# Altium schematic symbol library Schlib1.SchLib: 76 symbols (part 3 of 3)
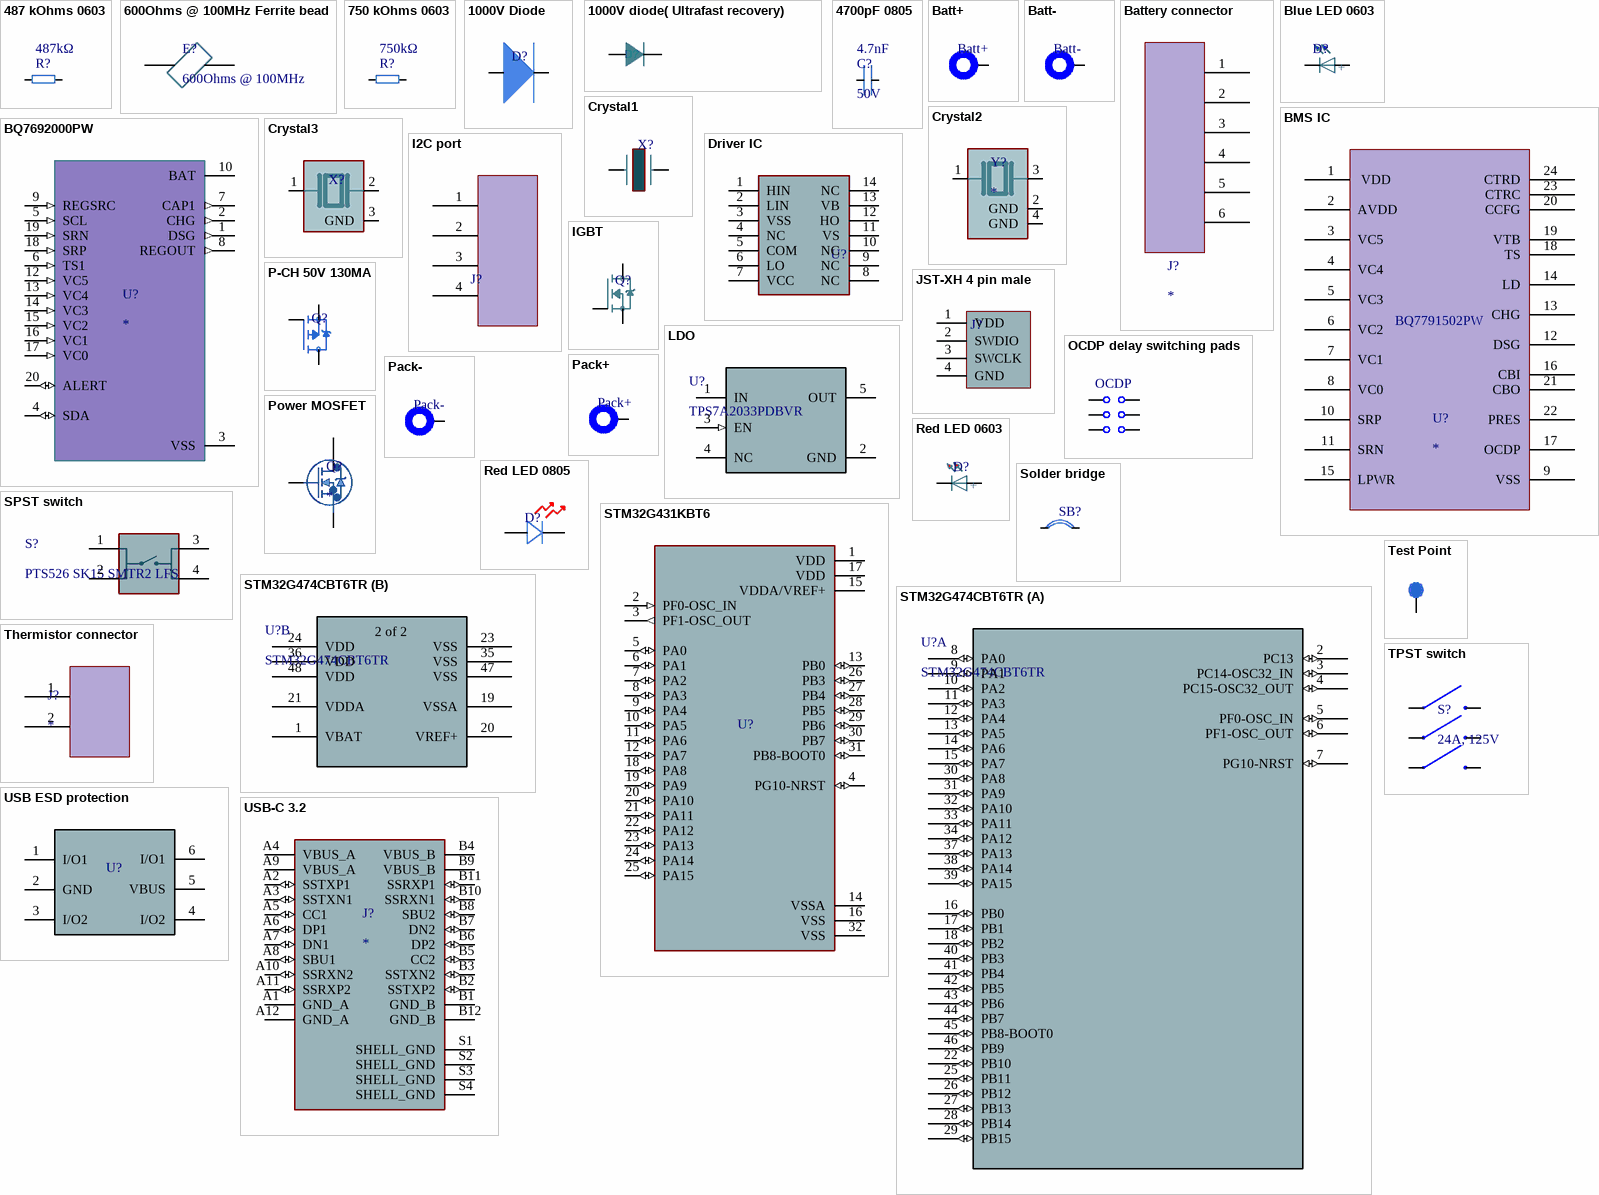
[diagram p3: symbols 487 kOhms 0603 to USB-C 3.2]

## Battery connector
designator J?
WCAP-CSGP 0805 (2012Metric) Ceramic Capacitor 0.079Lx0.049W 2.00mmx1.25mm X7R ±10% 4700pF; Manufacturer: Wurth Elektronik; Manufacturer Part Number: 885012207090; Value: 4.7nF; Insulation Resistance: 10GΩ; Voltage Rating: 50V; Supplier: DigiKey; Supplier Part Number: 732-8072-1-ND; RoHS: Compliant; Category: Ceramic Capacitors; Stock: 13537; Pricing: 1=0.1, 10=0.055, 50=0.0378, 100=0.0327, 500=0.02396, 1000=0.0213 (USD); Case/Package: 0805; Case Code (Imperial): 0805; Case Code (Metric): 2012; Height: 800µm; Length: 2mm; Material: Ceramic; Max Operating Temperature: 125°C; Min Operating Temperature: -55°C; Mounting Technology: Surface Mount; Thickness: 889µm; Tolerance: 10%; Width: 1.25mm; ComponentLink1URL: https://datasheet.octopart.com:443/885012207090-W%C3%BCrth-Elektronik-datasheet-137006526.pdf?src-supplier=Upverter; ComponentLink1Description: https://datasheet.octopart.com:443/885012207090-W%C3%BCrth-Elektronik-datasheet-137006526.pdf?src-supplier=Upverter; ComponentLink2URL: https://datasheet.octopart.com:443/885012207090-Wurth-Elektronik-datasheet-159617621.pdf?src-supplier=Newark; ComponentLink2Description: https://datasheet.octopart.com:443/885012207090-Wurth-Elektronik-datasheet-159617621.pdf?src-supplier=Newark
footprint Battery connector
footprint JST-XH 5 Pin THD
footprint 6 pin 2.54mm male header
pins: 1, 2, 3, 4, 5, 6

## Blue LED 0603
designator D?  (value not drawn)
0603, Blue Typ.(@20mA): 470nm, 145mcd, 3.2V, 140Â° InGaN; MF: Wurth Electronics; MP: 150060BS75000; SnapEDA_Link: https://www.snapeda.com/parts/150060BS75000/Wurth+Electronics/view-part/?ref=snap; Package: 0603 Wurth Electronics; Value: *; Check_prices: https://www.snapeda.com/parts/150060BS75000/Wurth+Electronics/view-part/?ref=eda
footprint WL-SMCW_0603
pins: 1 NEG, 2 POS
text: +

## BMS IC
designator U?
Power Supply Support Circuit, Adjustable, 2 Channel, PDSO24; Manufacturer: Texas Instruments; Manufacturer Part Number: BQ7791502PW; Supplier: Mouser; Supplier Part Number: 595-BQ7791502PW; RoHS: Yes; Category: Battery Management; Stock: 1199; Pricing: 1=1.9, 10=1.4, 50=1.19, 100=1.19, 1000=1.02, 10000=0.903 (USD); ComponentLink1URL: https://www.ti.com:443/lit/ds/symlink/bq77915.pdf?src-supplier=IHS+Markit; ComponentLink1Description: https://www.ti.com:443/lit/ds/symlink/bq77915.pdf?src-supplier=IHS+Markit; ComponentLink2URL: http://www.ti.com/general/docs/suppproductinfo.tsp?distId=10&amp;gotoUrl=http%3A%2F%2Fwww.ti.com%2Flit%2Fgpn%2Fbq77915&src-supplier=Digikey; ComponentLink2Description: http://www.ti.com/general/docs/suppproductinfo.tsp?distId=10&amp;gotoUrl=http%3A%2F%2Fwww.ti.com%2Flit%2Fgpn%2Fbq77915&src-supplier=Digikey
footprint BMS IC
pins: 1  VDD, 2 AVDD, 3 VC5, 4 VC4, 5 VC3, 6 VC2, 7 VC1, 8 VC0, 9 VSS, 10 SRP, 11 SRN, 12 DSG, 13 CHG, 14 LD, 15 LPWR, 16 CBI, 17 OCDP, 18 TS, 19 VTB, 20 CCFG, 21 CBO, 22 PRES, 23 CTRC, 24 CTRD

## BQ7692000PW
designator U?
3 to 5-Series Cell Li-Ion and Li-Phosphate Battery Monitor (bq76940 Family) 20-TSSOP -40 to 85; MP: BQ7692000PW; MF: Texas Instruments; Availability: Warning; SnapEDA_Link: https://www.snapeda.com/parts/BQ7692000PW/Texas%20Instruments/view-part/533751/?ref=snap; Check_prices: https://www.snapeda.com/parts/BQ7692000PW/Texas%20Instruments/view-part/533751/?ref=eda; Value: *; Purchase-URL: https://pricing.snapeda.com/search/part/BQ7692000PW/?ref=eda; Package: TSSOP-20 Texas Instruments; Price: None
footprint SOP65P640X120-20N
footprint BQ7692
pins: 1 DSG (out), 2 CHG (out), 3 VSS (power), 4 SDA (io), 5 SCL (in), 6 TS1 (in), 7 CAP1 (out), 8 REGOUT (out), 9 REGSRC (in), 10 BAT (power), 12 VC5 (in), 13 VC4 (in), 14 VC3 (in), 15 VC2 (in), 16 VC1 (in), 17 VC0 (in), 18 SRP (in), 19 SRN (in), 20 ALERT (io)

## Crystal1
designator X?, comment NX3215SA-32.768K-EXS00A-MU0000  (value not drawn)
Crystals CRYSTAL 32.768KHZ 12.5PF SMD; Manufacturer_Name: NDK; Manufacturer_Part_Number: NX3215SA-32.768K-EXS00A-MU00003; Geometry.Height: 0.9mm; Mouser Part Number: 344-NX3215SA32.768K3; Mouser Price/Stock: https://www.mouser.co.uk/ProductDetail/NDK/NX3215SA-32.768K-EXS00A-MU00003?qs=w%2Fv1CP2dgqrE9YNksyAN9A%3D%3D; Datasheet Link: https://media.digikey.com/pdf/Data%20Sheets/NDK%20PDFs/NX3215SA-32.768kHz-EXS00A-MU00003.pdf
footprint NX3215SA32768KEXS00AMU00003
pins: 1, 2

## Crystal2
designator Y?
8 MHz Â±20ppm Crystal 18pF 72 Ohms 4-SMD, No Lead; MP: ABMM2-8.000MHZ-E2-T; MF: Abracon; Package: SMD-4 Abracon; Purchase-URL: https://pricing.snapeda.com/search/part/ABMM2-8.000MHZ-E2-T/?ref=eda; Price: None; Availability: In Stock; SnapEDA_Link: https://www.snapeda.com/parts/ABMM2-8.000MHZ-E2-T/Abracon+LLC/view-part/?ref=snap; Check_prices: https://www.snapeda.com/parts/ABMM2-8.000MHZ-E2-T/Abracon+LLC/view-part/?ref=eda; Value: *
footprint XTAL_ABMM2-8.000MHZ-E2-T
pins: 1, 2 GND (power), 3 2, 4 GND (power)

## Crystal3
designator X?, comment 24MHz  (value not drawn)
Crystal, Standard, 24 MHz, SMD, 1.6mm x 1.2mm x 0.3mm, 10 ppm, 6 pF, 10 ppm, ECX-1247B; Manufacturer: ECS International; Manufacturer Part Number: ECS-240-6-47B-CKM-TR; Frequency Stability: 10ppm; Frequency Tolerance: 0.001%; Load Capacitance: 6pF; ESR: 100Ω; Supplier: DigiKey; Supplier Part Number: 50-ECS-240-6-47B-CKM-CT-ND; RoHS: Compliant; Category: Crystals; Stock: 3228; Pricing: 1=0.55, 10=0.475, 25=0.4496, 50=0.4308, 100=0.413, 250=0.3906, 500=0.37444 (USD); Frequency: 24MHz; Lifecycle Status: Production; Max Operating Temperature: 70°C; Min Operating Temperature: -20°C; Mounting Technology: Surface Mount; REACH SVHC: Yes; ComponentLink1URL: https://datasheet.octopart.com:443/ECS-240-6-47B-CKM-TR-ECS-International-datasheet-163805538.pdf?src-supplier=IHS; ComponentLink1Description: https://datasheet.octopart.com:443/ECS-240-6-47B-CKM-TR-ECS-International-datasheet-163805538.pdf?src-supplier=IHS
pins: 1, 2, 3 GND (power)

## Driver IC
designator U?, comment UCC27714DR  (value not drawn)
Half Bridge Based MOSFET Driver, 4A, PDSO14; Manufacturer: Texas Instruments; Supplier: Digikey; Supplier Part Number: 296-42701-1-ND; Manufacturer Part Number: UCC27714DR; RoHS: Yes; Category: Integrated Circuits (ICs); Stock: 668; Pricing: 1=3.15, 10=2.36, 25=2.1628, 100=1.9459, 250=1.8426, 500=1.78034, 1000=1.72907 (USD); Terminal Finish: Nickel; JESD-609 Code: e4; Interface IC Type: HALF BRIDGE BASED MOSFET DRIVER; Moisture Sensitivity Level: 2; Reach SVHC Compliant: Yes; RoHS Compliant: Yes; ComponentLink1URL: https://datasheet.ciiva.com:443/pdfs/VipMasterIC/IC/TXII/TXII-S-A0003922155/TXII-S-A0003922155-1.pdf?src-supplier=IHS+Markit; ComponentLink1Description: https://datasheet.ciiva.com:443/pdfs/VipMasterIC/IC/TXII/TXII-S-A0003922155/TXII-S-A0003922155-1.pdf?src-supplier=IHS+Markit; ComponentLink2URL: http://www.ti.com/lit/ds/symlink/ucc27714.pdf?src-supplier=Digikey; ComponentLink2Description: http://www.ti.com/lit/ds/symlink/ucc27714.pdf?src-supplier=Digikey
pins: 1 HIN (power), 2 LIN (power), 3 VSS, 4 NC, 5 COM, 6 LO, 7 VCC, 8 NC, 9 NC, 10 NC, 11 VS, 12 HO, 13 VB (power), 14 NC (power)

## I2C port
designator J?, comment Headers  (value not drawn)
footprint 4 pin 2.54mm male header
pins: 1, 2, 3, 4

## IGBT
designator Q?  (value not drawn)
Insulated Gate Bipolar Transistor, 80A I(C), 650V V(BR)CES, N-Channel, TO-247; Manufacturer: Infineon; Manufacturer Part Number: IGW50N65H5FKSA1; Collector Emitter Saturation Voltage: 2.1V; Element Configuration: Single; Max Power Dissipation: 305W; Number of Elements: 1; Supplier: Arrow Electronics; Supplier Part Number: IGW50N65H5FKSA1; RoHS: Compliant; Category: Power Management ICs; Stock: 58; Pricing: 1=2.6571, 10=2.63, 25=1.931 (USD); Case/Package: TO-247; China RoHS: Compliant; Collector Emitter Breakdown Voltage: 650V; Collector Emitter Voltage (VCEO): 650V; Lead Free: Lead Free; Lifecycle Status: Production; Max Collector Current: 80A; Max Operating Temperature: 175°C; Min Operating Temperature: -40°C; Mounting Technology: Through Hole; Pins: 3; Number of Terminals: 3; Package Quantity: 240; Power Dissipation: 305W; REACH SVHC: Yes; ComponentLink1URL: https://datasheet.octopart.com:443/IGW50N65H5FKSA1-Infineon-datasheet-62294547.pdf?src-supplier=IHS; ComponentLink1Description: https://datasheet.octopart.com:443/IGW50N65H5FKSA1-Infineon-datasheet-62294547.pdf?src-supplier=IHS; ComponentLink2URL: https://datasheet.octopart.com:443/IGW50N65H5FKSA1-Infineon-datasheet-21803310.pdf?src-supplier=Newark; ComponentLink2Description: https://datasheet.octopart.com:443/IGW50N65H5FKSA1-Infineon-datasheet-21803310.pdf?src-supplier=Newark; ComponentLink3URL: http://sigma.octopart.com:80/conflict_mineral_statement/Infineon-company-51.pdf?src-supplier=Compliance+Statements; ComponentLink3Description: http://sigma.octopart.com:80/conflict_mineral_statement/Infineon-company-51.pdf?src-supplier=Compliance+Statements
pins: 1 G, 2 D, 3 S

## JST-XH 4 pin male
designator J?, comment JST-XH  (value not drawn)
Connector Header Through Hole 4 position 0.098 (2.50mm); MF: JST Sales; MP: B4B-XH-A; SnapEDA_Link: https://www.snapeda.com/parts/B4B-XH-A/JST/view-part/?ref=snap; Package: None; Value: *; Check_prices: https://www.snapeda.com/parts/B4B-XH-A/JST/view-part/?ref=eda
footprint JST_B4B-XH-A
pins: 1 VDD, 2 SWDIO, 3 SWCLK, 4 GND

## LDO
designator U?, comment TPS7A2033PDBVR
300mA ultra-low-noise low-IQ low-dropout (LDO) linear regulator with high PSRR 5-SOT-23 -40 to 125; Manufacturer_Name: Texas Instruments; TYPE: TYPE; RefDes: RefDes; Copyright: Copyright (C) 2025 Ultra Librarian. All rights reserved.; Manufacturer_Part_Number: TPS7A2033PDBVR; Datasheet: https://www.ti.com/lit/gpn/tps7a20
footprint DBV0005A-IPC_A
pins: 1 IN (power), 2 GND (power), 3 EN (in), 4 NC, 5 OUT

## OCDP delay switching pads
designator OCDP  (value not drawn)
footprint 4S Switching pads
pins: 1 "Power pad", 2 "Power pad", 3 "Power pad", 4 "Power pad", 5 "Power pad", 6 "Power pad"

## P-CH 50V 130MA
designator Q?, comment 200mW  (value not drawn)
P-Channel 50 V 10 Ohm Enhancement Mode Transistor SOT-323; Manufacturer: Diodes Inc.; Manufacturer Part Number: BSS84W-7-F; Continuous Drain Current (ID): 130mA; Current Rating: -130mA; Drain to Source Resistance: 10Ω; Drain to Source Voltage (Vdss): -50V; Element Configuration: Single; Gate to Source Voltage (Vgs): 20V; Input Capacitance: 45pF; Min Breakdown Voltage: 50V; Nominal Vgs: -1.6V; Number of Channels: 1; Value: 10Ω; Turn-Off Delay Time: 18ns; Turn-On Delay Time: 10ns; Supplier: Future Electronics; Supplier Part Number: 2191460; RoHS: Compliant; Category: MOSFETs; Stock: 1830000; Pricing: 3000=0.0295, 9000=0.0288, 15000=0.0285, 60000=0.0276, 90000=0.027 (USD); Case/Package: SOT-323; China RoHS: Compliant; Contact Plating: Tin; Height: 1mm; Lead Free: Lead Free; Length: 2.2mm; Lifecycle Status: Production; Max Operating Temperature: 150°C; Max Power Dissipation: 200mW; Min Operating Temperature: -55°C; Mounting Technology: Surface Mount; Number of Elements: 1; Pins: 3; Number of Terminals: 3; Power Dissipation: 200mW; Radiation Hardening: No; Rds On Max: 10Ω; REACH SVHC: Yes; Schedule B: 8541210080, 8541210080|8541210080, 8541210080|8541210080|8541210080, 8541210080|8541210080|8541210080|8541210080; Threshold Voltage: -1.6V; Voltage Rating (DC): -50V; Weight: 6.010099mg; Width: 1.35mm; ComponentLink1URL: https://datasheet.octopart.com:443/BSS84W-7-F-Diodes-Inc.-datasheet-180551845.pdf?src-supplier=Newark; ComponentLink1Description: https://datasheet.octopart.com:443/BSS84W-7-F-Diodes-Inc.-datasheet-180551845.pdf?src-supplier=Newark; ComponentLink2URL: https://datasheet.octopart.com:443/BSS84W-7-F-Diodes-Inc.-datasheet-12525918.pdf?src-supplier=Newark; ComponentLink2Description: https://datasheet.octopart.com:443/BSS84W-7-F-Diodes-Inc.-datasheet-12525918.pdf?src-supplier=Newark; ComponentLink3URL: https://datasheet.octopart.com:443/BSS84W-7-F-Diodes-Inc.-datasheet-8398566.pdf?src-supplier=Newark; ComponentLink3Description: https://datasheet.octopart.com:443/BSS84W-7-F-Diodes-Inc.-datasheet-8398566.pdf?src-supplier=Newark; ComponentLink4URL: https://datasheet.octopart.com:443/BSS84W-7-F-Diodes-Inc.-datasheet-41567332.pdf?src-supplier=Newark; ComponentLink4Description: https://datasheet.octopart.com:443/BSS84W-7-F-Diodes-Inc.-datasheet-41567332.pdf?src-supplier=Newark; ComponentLink5URL: https://datasheet.octopart.com:443/BSS84W-7-F-Diodes-Inc.-datasheet-116035940.pdf?src-supplier=Diodes+Inc+SCT; ComponentLink5Description: https://datasheet.octopart.com:443/BSS84W-7-F-Diodes-Inc.-datasheet-116035940.pdf?src-supplier=Diodes+Inc+SCT; ComponentLink6URL: https://sigma.octopart.com:443/138896157/technical_drawing/Diodes-Inc.-BSS84W-7-F.pdf?src-supplier=Diodes+Inc+SCT; ComponentLink6Description: https://sigma.octopart.com:443/138896157/technical_drawing/Diodes-Inc.-BSS84W-7-F.pdf?src-supplier=Diodes+Inc+SCT; ComponentLink7URL: https://datasheet.octopart.com:443/BSS84W-7-F-Diodes-Inc.-datasheet-128476779.pdf?src-supplier=TME; ComponentLink7Description: https://datasheet.octopart.com:443/BSS84W-7-F-Diodes-Inc.-datasheet-128476779.pdf?src-supplier=TME; ComponentLink8URL: https://datasheet.octopart.com:443/BSS84W-7-F-Diodes-Inc.-datasheet-14061317.pdf?src-supplier=iiiC; ComponentLink8Description: https://datasheet.octopart.com:443/BSS84W-7-F-Diodes-Inc.-datasheet-14061317.pdf?src-supplier=iiiC; ComponentLink9URL: https://datasheet.octopart.com:443/BSS84W-7-F-Diodes-Inc.-datasheet-41929731.pdf?src-supplier=RS+(Formerly+Allied+Electronics); ComponentLink9Description: https://datasheet.octopart.com:443/BSS84W-7-F-Diodes-Inc.-datasheet-41929731.pdf?src-supplier=RS+(Formerly+Allied+Electronics); ComponentLink10URL: https://datasheet.octopart.com:443/BSS84W-7-F-Diodes-Inc.-datasheet-8318221.pdf?src-supplier=Jameco; ComponentLink10Description: https://datasheet.octopart.com:443/BSS84W-7-F-Diodes-Inc.-datasheet-8318221.pdf?src-supplier=Jameco; ComponentLink11URL: https://datasheet.octopart.com:443/BSS84W-7-F-Diodes-Inc.-datasheet-71356.pdf?src-supplier=Mouser; ComponentLink11Description: https://datasheet.octopart.com:443/BSS84W-7-F-Diodes-Inc.-datasheet-71356.pdf?src-supplier=Mouser; ComponentLink12URL: http://sigma.octopart.com:80/15540767/rohs_statement/Diodes-Inc.-BSS84W-7-F.pdf?src-supplier=Compliance+Statements; ComponentLink12Description: http://sigma.octopart.com:80/15540767/rohs_statement/Diodes-Inc.-BSS84W-7-F.pdf?src-supplier=Compliance+Statements
footprint P-CH 50V 130MA
pins: 1 G, 2 S, 3 D

## Pack+
designator Pack+, comment Power pad  (value not drawn)
Powerplus High Current Terminal; Manufacturer: Wurth Electronics; Manufacturer Part Number: S93515; Supplier: Digikey; Supplier Part Number: 2101-S93515-ND; RoHS: No; Category: Terminals; Stock: 33869; Pricing: 1=1.59, 10=1.352, 25=1.2668, 99=1.14929, 198=1.09439, 297=1.0635, 594=1.01273, 1089=0.97034, 2574=0.9375 (USD)
footprint Screw connector
footprint Power through hole pads
pins: 1 "Power pad"

## Pack-
designator Pack-, comment Power pad  (value not drawn)
Powerplus High Current Terminal; Manufacturer: Wurth Electronics; Manufacturer Part Number: S93515; Supplier: Digikey; Supplier Part Number: 2101-S93515-ND; RoHS: No; Category: Terminals; Stock: 33869; Pricing: 1=1.59, 10=1.352, 25=1.2668, 99=1.14929, 198=1.09439, 297=1.0635, 594=1.01273, 1089=0.97034, 2574=0.9375 (USD)
footprint Screw connector
footprint Power through hole pads
pins: 1 "Power pad"

## Power MOSFET
designator Q?
Mosfet, N-ch, Single, 120A, 65V,; Manufacturer: Good-Ark; Manufacturer Part Number: GSFP06120; Supplier: DigiKey; Supplier Part Number: 4786-GSFP06120CT-ND; Category: MOSFETs; Stock: 2771; Pricing: 1=0.93, 10=0.669, 25=0.6028, 100=0.5305, 250=0.49588, 500=0.47506, 1000=0.45792 (USD)
footprint GSFP06120
pins: 1, 2, 3

## Red LED 0603
designator D?  (value not drawn)
Single Color LED, Super Red, Colorless Diffused, 1mm; Manufacturer: Osram Opto; Manufacturer Part Number: LSQ976-NR-1; Shape: Rectangular; Lens Style: Diffused,Colorless; Forward Current: 25mA; Luminous Intensity-Nom: 104mcd; Channels: 1; Viewing Angle: 160°; Overall Height: 0.8mm; Supplier: Avnet; Supplier Part Number: Q62702P5187; RoHS: Yes; Category: LEDs; Stock: 48000; Pricing: 16000=0.02047, 32000=0.0203, 64000=0.02013, 96000=0.01996, 128000=0.01979 (USD); Mounting Technology: Surface Mount; Pins: 2; Color: Red; Terminal Finish: Copper; Min Operating Temperature: -30°C; Max Operating Temperature: 85°C; JESD-609 Code: e4; Optoelectronic Device Type: SINGLE COLOR LED; Packaging: Tape and Reel; Size: 1mm; Terminal Pitch: 1.5mm; Reach SVHC Compliant: Yes; RoHS Compliant: Yes; ComponentLink1URL: https://datasheet.ciiva.com:443/pdfs/VipMasterIC/IC/OSOS/OSOS-S-A0009829090/OSOS-S-A0009829161-1.pdf?src-supplier=IHS+Markit; ComponentLink1Description: https://datasheet.ciiva.com:443/pdfs/VipMasterIC/IC/OSOS/OSOS-S-A0009829090/OSOS-S-A0009829161-1.pdf?src-supplier=IHS+Markit; ComponentLink2URL: http://www.mouser.com/ds/2/311/LS%20Q976%20-%20CHIPLED%200603-741036.pdf?src-supplier=Mouser; ComponentLink2Description: http://www.mouser.com/ds/2/311/LS%20Q976%20-%20CHIPLED%200603-741036.pdf?src-supplier=Mouser; ComponentLink3URL: https://datasheet.octopart.com/Q62702P5187-Osram-datasheet-166898701.pdf?src-supplier=Future+Electronics; ComponentLink3Description: https://datasheet.octopart.com/Q62702P5187-Osram-datasheet-166898701.pdf?src-supplier=Future+Electronics; ComponentLink4URL: https://dammedia.osram.info/media/resource/hires/osram-dam-2493499/LS%20Q976.pdf?src-supplier=Digikey; ComponentLink4Description: https://dammedia.osram.info/media/resource/hires/osram-dam-2493499/LS%20Q976.pdf?src-supplier=Digikey; ComponentLink5URL: http://datasheet.octopart.com/LS-Q976-NR-1-Osram-Opto-datasheet-138897506.pdf?src-supplier=Distrelec; ComponentLink5Description: http://datasheet.octopart.com/LS-Q976-NR-1-Osram-Opto-datasheet-138897506.pdf?src-supplier=Distrelec; ComponentLink6URL: http://catalog.osram-os.com/catalogue/catalogue.do;jsessionid=DB5BAFF3681E40FDF2182FC557DD8F39?act=downloadFile&favOid=020000010003fd4e000100b6&src-supplier=Avnet; ComponentLink6Description: http://catalog.osram-os.com/catalogue/catalogue.do;jsessionid=DB5BAFF3681E40FDF2182FC557DD8F39?act=downloadFile&favOid=020000010003fd4e000100b6&src-supplier=Avnet; ComponentLink7URL: http://datasheet.octopart.com/LS-Q976-NR-1-Osram-Opto-datasheet-138897506.pdf?src-supplier=Verical; ComponentLink7Description: http://datasheet.octopart.com/LS-Q976-NR-1-Osram-Opto-datasheet-138897506.pdf?src-supplier=Verical; ComponentLink8URL: http://datasheet.octopart.com/LS-Q976-NR-1-Osram-Opto-datasheet-138897506.pdf?src-supplier=TME; ComponentLink8Description: http://datasheet.octopart.com/LS-Q976-NR-1-Osram-Opto-datasheet-138897506.pdf?src-supplier=TME
pins: 1 NEG, 2 POS
text: +

## Red LED 0805
designator D?, comment Red  (value not drawn)
Single-color LEDs; LITEON; LTST-C171KRKT; Red; 130 °; 2 V; 0805; Manufacturer: Lite-On; Dominant Wavelength: 631nm; Forward Current: 30mA; Forward Voltage: 2V; Lens Color: Clear, Colorless; Lens Style: Clear; Luminous Intensity: 54mcd; Number of Circuits: 1; Peak Wavelength: 639nm; Power Dissipation: 75mW; Reverse Voltage: 5V; Shape: Rectangular; Test Current: 20mA; Viewing Angle: 130°; Supplier: Avnet; Supplier Part Number: LTST-C171KRKT; Manufacturer Part Number: LTST-C171KRKT; RoHS: Compliant; Category: LEDs; Stock: 36000; Pricing: 6000=0.0286, 12000=0.02795, 24000=0.02731, 48000=0.02666, 96000=0.02602 (USD); Case/Package: 0805; Case Code (Imperial): 0805; Case Code (Metric): 2012; China RoHS: Compliant; Color: Red; Depth: 1.25mm; Height: 800µm; Illumination Color: Red; Lead Free: Lead Free; Length: 2mm; Lens Transparency: Clear; Lifecycle Status: Production; Max Operating Temperature: 85°C; Min Operating Temperature: -55°C; Mounting Technology: Surface Mount; Number of Elements: 1; Number of LEDs: 1; Pins: 2; Number of Terminals: 2; Power Rating: 75mW; Radiation Hardening: No; REACH SVHC: Yes; Schedule B: 8541402000, 8541402000|8541402000|8541402000|8541402000|8541402000; Terminal Pitch: 2.5mm; Wavelength: 631nm; Width: 1.25mm; ComponentLink1URL: https://datasheet.octopart.com:443/LTST-C171KRKT-Lite-On-datasheet-32046998.pdf?src-supplier=ODG+(Origin+Data+Global); ComponentLink1Description: https://datasheet.octopart.com:443/LTST-C171KRKT-Lite-On-datasheet-32046998.pdf?src-supplier=ODG+(Origin+Data+Global); ComponentLink2URL: https://datasheet.octopart.com:443/LTST-C171KRKT-Lite-On-datasheet-180605162.pdf?src-supplier=IHS; ComponentLink2Description: https://datasheet.octopart.com:443/LTST-C171KRKT-Lite-On-datasheet-180605162.pdf?src-supplier=IHS; ComponentLink3URL: https://datasheet.octopart.com:443/LTST-C171KRKT-Lite-On-datasheet-166436.pdf?src-supplier=_legacy+Avnet; ComponentLink3Description: https://datasheet.octopart.com:443/LTST-C171KRKT-Lite-On-datasheet-166436.pdf?src-supplier=_legacy+Avnet; ComponentLink4URL: https://datasheet.octopart.com:443/LTST-C171KRKT-Lite-On-datasheet-166322636.pdf?src-supplier=TME; ComponentLink4Description: https://datasheet.octopart.com:443/LTST-C171KRKT-Lite-On-datasheet-166322636.pdf?src-supplier=TME; ComponentLink5URL: https://datasheet.octopart.com:443/LTST-C171KRKT-Lite-On-datasheet-165573808.pdf?src-supplier=TME; ComponentLink5Description: https://datasheet.octopart.com:443/LTST-C171KRKT-Lite-On-datasheet-165573808.pdf?src-supplier=TME; ComponentLink6URL: https://datasheet.octopart.com:443/LTST-C171KRKT-Lite-On-datasheet-8330373.pdf?src-supplier=Future+Electronics; ComponentLink6Description: https://datasheet.octopart.com:443/LTST-C171KRKT-Lite-On-datasheet-8330373.pdf?src-supplier=Future+Electronics; ComponentLink7URL: https://datasheet.octopart.com:443/LTST-C171KRKT-Lite-On-datasheet-62737.pdf?src-supplier=DigiKey; ComponentLink7Description: https://datasheet.octopart.com:443/LTST-C171KRKT-Lite-On-datasheet-62737.pdf?src-supplier=DigiKey
footprint LED 0805
pins: 1 CATHODE, 2 ANODE

## Solder bridge
designator SB?  (value not drawn)
footprint Solder Bridge
pins: 1, 2

## SPST switch
designator S?, comment PTS526 SK15 SMTR2 LFS
No Description Available; Manufacturer_Name: C&K Components; Copyright: Copyright (C) 2025 Ultra Librarian. All rights reserved.; Manufacturer_Part_Number: PTS526 SK15 SMTR2 LFS; RefDes: RefDes; Type: Type
footprint SMT_FS
pins: 1, 2, 3, 4

## STM32G431KBT6
designator U?  (value not drawn)
ARMÂ® CortexÂ®-M4F STM32G4 Microcontroller IC 32-Bit Single-Core 170MHz 128KB (128K x 8) FLASH 32-LQFP (7x7); MF: STMicroelectronics; SnapEDA_Link: https://www.snapeda.com/parts/STM32G431KBT6/STMicroelectronics/view-part/?ref=snap; Package: LQFP-32 STMicroelectronics; Value: *; MP: STM32G431KBT6; Check_prices: https://www.snapeda.com/parts/STM32G431KBT6/STMicroelectronics/view-part/?ref=eda
footprint QFP80P900X900X160-32N
pins: 1 VDD (power), 2 PF0-OSC_IN (in), 3 PF1-OSC_OUT (out), 4 PG10-NRST (io), 5 PA0 (io), 6 PA1 (io), 7 PA2 (io), 8 PA3 (io), 9 PA4 (io), 10 PA5 (io), 11 PA6 (io), 12 PA7 (io), 13 PB0 (io), 14 VSSA (power), 15 VDDA/VREF+ (power), 16 VSS (power), 17 VDD (power), 18 PA8 (io), 19 PA9 (io), 20 PA10 (io), 21 PA11 (io), 22 PA12 (io), 23 PA13 (io), 24 PA14 (io), 25 PA15 (io), 26 PB3 (io), 27 PB4 (io), 28 PB5 (io), 29 PB6 (io), 30 PB7 (io), 31 PB8-BOOT0 (io), 32 VSS (power)

## STM32G474CBT6TR
designator U?
Mainstream Arm Cortex-M4 MCU 170 MHz with 128 Kbytes of Flash memory, Math Accelerator, HR Timer, High Analog level integration; Manufacturer_Name: STMicroelectronics; Copyright: Copyright (C) 2025 Ultra Librarian. All rights reserved.; Manufacturer_Part_Number: STM32G474CBT6TR; Datasheet: https://www.st.com/resource/en/datasheet/stm32g474cb.pdf; RefDes: RefDes; Type: Type
footprint LQFP48-7x7mm
part A pins: 2 PC13 (io), 3 PC14-OSC32_IN (io), 4 PC15-OSC32_OUT (io), 5 PF0-OSC_IN (io), 6 PF1-OSC_OUT (io), 7 PG10-NRST (io), 8 PA0 (io), 9 PA1 (io), 10 PA2 (io), 11 PA3 (io), 12 PA4 (io), 13 PA5 (io), 14 PA6 (io), 15 PA7 (io), 16 PB0 (io), 17 PB1 (io), 18 PB2 (io), 22 PB10 (io), 25 PB11 (io), 26 PB12 (io), 27 PB13 (io), 28 PB14 (io), 29 PB15 (io), 30 PA8 (io), 31 PA9 (io), 32 PA10 (io), 33 PA11 (io), 34 PA12 (io), 37 PA13 (io), 38 PA14 (io), 39 PA15 (io), 40 PB3 (io), 41 PB4 (io), 42 PB5 (io), 43 PB6 (io), 44 PB7 (io), 45 PB8-BOOT0 (io), 46 PB9 (io)
part B pins: 1 VBAT (power), 19 VSSA (power), 20 VREF+ (power), 21 VDDA (power), 23 VSS (power), 24 VDD (power), 35 VSS (power), 36 VDD (power), 47 VSS (power), 48 VDD (power)
part B text: 2 of 2

## Test Point
designator TP?, comment Pad  (value not drawn)
footprint Test Point
pins: 1

## Thermistor connector
designator J?
footprint Thermostat connector
pins: 1, 2

## TPST switch
designator S?, comment 24A, 125V
Toggle Switch; Manufacturer: E-Switch; Manufacturer Part Number: ST34RE00; Supplier: Digikey; Supplier Part Number: EG4830-ND; RoHS: Yes; Category: Toggle Switches; Stock: 1000; Pricing: 1=14.38, 10=12.411, 25=11.702, 50=11.1918, 100=10.7031, 250=10.08848, 500=9.64608, 1000=9.22219 (USD); Switch Type: Toggle; Reach SVHC Compliant: Yes; RoHS Compliant: Yes; ComponentLink1URL: https://datasheet.ciiva.com:443/pdfs/VipMasterIC/IC/ESCH/ESCH-S-A0005338378/ESCH-S-A0005350128-1.pdf?src-supplier=IHS+Markit; ComponentLink1Description: https://datasheet.ciiva.com:443/pdfs/VipMasterIC/IC/ESCH/ESCH-S-A0005338378/ESCH-S-A0005350128-1.pdf?src-supplier=IHS+Markit; ComponentLink2URL: https://datasheet.ciiva.com/2904/34-st34re00-2904929.pdf?src-supplier=Digikey; ComponentLink2Description: https://datasheet.ciiva.com/2904/34-st34re00-2904929.pdf?src-supplier=Digikey; ComponentLink3URL: https://datasheet.ciiva.com/5295/st3-17685-5295906.pdf?src-supplier=Mouser; ComponentLink3Description: https://datasheet.ciiva.com/5295/st3-17685-5295906.pdf?src-supplier=Mouser; ComponentLink4URL: https://datasheet.ciiva.com/7633/st3-7633234.pdf?src-supplier=Element14; ComponentLink4Description: https://datasheet.ciiva.com/7633/st3-7633234.pdf?src-supplier=Element14
footprint TPST switch
pins: 1, 2, 3, 4, 5, 6

## USB ESD protection
designator U?  (value not drawn)
USBLC6-2SC6, Dual Uni-Directional TVS Diode Array, 6-Pin SOT-23; Manufacturer: STMicroelectronics; Breakdown Voltage: 6V; Value: 2.5pF; Clamping Voltage: 17V; Data Rate: 480Mbps; Direction: Unidirectional; ESD Protection: Yes; Forward Voltage: 1.1V; Leakage Current: 150nA; Max Junction Temperature (Tj): 125°C; Max Repetitive Reverse Voltage (Vrrm): 5.25V; Number of Bidirectional Channels: 2; Number of Elements: 1; Peak Pulse Current: 5A; Reverse Standoff Voltage: 5V; Test Current: 1mA; Supplier: Arrow Electronics; Supplier Part Number: USBLC6-2SC6; Manufacturer Part Number: USBLC6-2SC6; RoHS: Compliant; Category: TVS Diodes; Stock: 198000; Pricing: 3000=0.0786, 6000=0.075, 9000=0.074 (USD); Case/Package: SOT-23; China RoHS: Compliant; Contact Plating: Tin; Depth: 1.75mm; Element Configuration: Dual; Height: 1.45mm; Lead Free: Lead Free; Length: 3.05mm; Lifecycle Status: Production; Max Breakdown Voltage: 6V; Max Operating Temperature: 125°C; Max Reverse Leakage Current: 150nA; Min Breakdown Voltage: 6V; Min Operating Temperature: -40°C; Mounting Technology: Surface Mount; Number of Channels: 2; Pins: 6; Number of Terminals: 6; Operating Supply Voltage: 1.1V; Peak Reverse Current: 150nA; Polarity: Unidirectional; Power Line Protection: Yes; Radiation Hardening: No; REACH SVHC: Yes; Reverse Breakdown Voltage: 6V; Schedule B: 8536300000, 8536300000|8536300000|8536300000|8536300000|8536300000|8536300000|8536300000|8536300000|8536300000|8536300000|8536300000|8536300000|8536300000|8536300000|8536300000|8536300000|8536300000|8536300000|8536300000|8536300000|8536300000|8536300000|8536300000|85; Termination: SMD/SMT; Width: 1.75mm; Working Voltage: 5V; ComponentLink1URL: https://datasheet.octopart.com:443/USBLC6-2SC6-STMicroelectronics-datasheet-10412581.pdf?src-supplier=Newark; ComponentLink1Description: https://datasheet.octopart.com:443/USBLC6-2SC6-STMicroelectronics-datasheet-10412581.pdf?src-supplier=Newark; ComponentLink2URL: https://datasheet.octopart.com:443/USBLC6-2SC6-STMicroelectronics-datasheet-181961833.pdf?src-supplier=Newark; ComponentLink2Description: https://datasheet.octopart.com:443/USBLC6-2SC6-STMicroelectronics-datasheet-181961833.pdf?src-supplier=Newark; ComponentLink3URL: https://datasheet.octopart.com:443/USBLC6-2SC6-STMicroelectronics-datasheet-525477.pdf?src-supplier=Factory+Futures; ComponentLink3Description: https://datasheet.octopart.com:443/USBLC6-2SC6-STMicroelectronics-datasheet-525477.pdf?src-supplier=Factory+Futures; ComponentLink4URL: https://datasheet.octopart.com:443/USBLC6-2SC6-STMicroelectronics-datasheet-82998616.pdf?src-supplier=Farnell; ComponentLink4Description: https://datasheet.octopart.com:443/USBLC6-2SC6-STMicroelectronics-datasheet-82998616.pdf?src-supplier=Farnell; ComponentLink5URL: https://datasheet.octopart.com:443/USBLC6-2SC6-STMicroelectronics-datasheet-46285.pdf?src-supplier=Farnell; ComponentLink5Description: https://datasheet.octopart.com:443/USBLC6-2SC6-STMicroelectronics-datasheet-46285.pdf?src-supplier=Farnell; ComponentLink6URL: https://datasheet.octopart.com:443/USBLC6-2SC6-STMicroelectronics-datasheet-14050643.pdf?src-supplier=iiiC; ComponentLink6Description: https://datasheet.octopart.com:443/USBLC6-2SC6-STMicroelectronics-datasheet-14050643.pdf?src-supplier=iiiC; ComponentLink7URL: https://datasheet.octopart.com:443/USBLC6-2SC6-STMicroelectronics-datasheet-10521292.pdf?src-supplier=Jameco; ComponentLink7Description: https://datasheet.octopart.com:443/USBLC6-2SC6-STMicroelectronics-datasheet-10521292.pdf?src-supplier=Jameco
pins: 1 I/O1 (power), 2 GND, 3 I/O2, 4 I/O2 (power), 5 VBUS, 6 I/O1

## USB-C 3.2
designator J?
Manufacturer Product Number: USB4056-03-A; MF: {'manufacturer': u'Global Connector Technology'}; MP: USB4056-03-A_REVA2; Package: None; Price: None; Value: *; Availability: Unavailable
footprint GCT_USB4056-03-A_REVA2
pins: A1 GND_A (power), A2 SSTXP1 (io), A3 SSTXN1 (io), A4 VBUS_A (power), A5 CC1 (io), A6 DP1 (io), A7 DN1 (io), A8 SBU1 (io), A9 VBUS_A (power), A10 SSRXN2 (io), A11 SSRXP2 (io), A12 GND_A (power), B1 GND_B (power), B2 SSTXP2 (io), B3 SSTXN2 (io), B4 VBUS_B (power), B5 CC2 (io), B6 DP2 (io), B7 DN2 (io), B8 SBU2 (io), B9 VBUS_B (power), B10 SSRXN1 (io), B11 SSRXP1 (io), B12 GND_B (power), S1 SHELL_GND (power), S2 SHELL_GND (power), S3 SHELL_GND (power), S4 SHELL_GND (power)